# Altium schematic symbol library ERJ-8ENF3302V.SchLib: 1 symbol
Pins are listed as number, name and electrical type; pins without a type are passive.

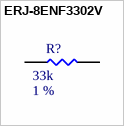
[diagram p0: symbol ERJ-8ENF3302V]

## ERJ-8ENF3302V
designator R?  Tolerance: 1 %  Resistance: 33k  (hidden comment: ERJ-8ENF3302V)
Thick Film Resistors - SMD 1206 33Kohms 1% AEC-Q200; MFR: Panasonic; Power Rating: 1/4W; ComponentLink1Description: Datasheet; ComponentLink1URL: https://www.mouser.ca/datasheet/2/315/AOA0000C304-1149620.pdf; Qualifications: AEC-Q200; PN: ERJ-8ENF3302V; Footprint: RES1206; Package: 1206; Supplier 1: Digi-Key; Supplier Part Number 1: P33.0KFCT-ND
footprint RES1206 (Generic 1206 PCB Footprint)
pins: 1, 2